# Altium footprint library PMEG2005AEA_115.PCBLIB: 1 footprints
Each footprint in its own frame and in the unit in brackets; x right, y up, seen from the top. Pads: shape width x height; smd on the part's side, far side on the other; paste and mask are expansions set on the pad; w line width, h text height; cw(c..) or ccw(c..) is an arc to the next point about the centre after c.
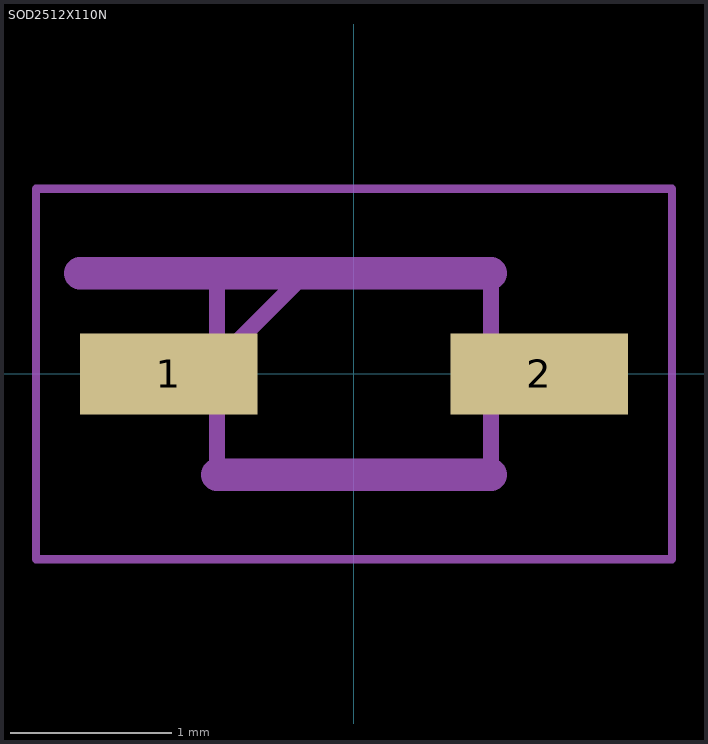
[diagram p0: the footprint, top view; thin cyan lines are the x and y axes]

## SOD2512X110N [mm]
pads (2):
  rect 1.1x0.5 smd: 1(-1.15,0) 2(1.15,0)
tDocu:
  lines w0.05: -1.975,-1.15 1.975,-1.15 1.975,1.15 -1.975,1.15 -1.975,-1.15
  lines w0.1: -0.85,0.075 -0.3,0.625 ; -0.85,-0.625 0.85,-0.625 0.85,0.625 -0.85,0.625 -0.85,-0.625
tPlace:
  lines w0.2: -1.7,0.625 0.85,0.625 ; -0.85,-0.625 0.85,-0.625